# EAGLE library part ISD2100 (library reprapltd)
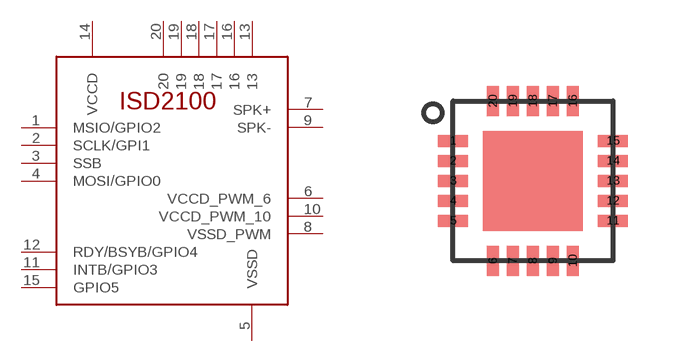
[diagram p3: symbol with the pads of QFN20; footprint QFN20]

Designator prefix IC

## ISD2100  [QFN20]
1  MSIO/GPIO2
2  SCLK/GPI1  in
3  SSB  in
4  MOSI/GPIO0
5  VSSD  pwr
6  VCCD_PWM_6  in
7  SPK+  out
8  VSSD_PWM  in
9  SPK-  out
10  VCCD_PWM_10  in
11  INTB/GPIO3
12  RDY/BSYB/GPIO4
13  13  nc
14  VCCD  pwr
15  GPIO5
16  16  nc
17  17  nc
18  18  nc
19  19  nc
20  20  nc

## Footprint QFN20 (pad centres in mm)
smd 0.75 x 0.3: 1 -2,1; 2 -2,0.5; 3 -2,0; 4 -2,-0.5; 5 -2,-1; 11 2,-1; 12 2,-0.5; 13 2,0; 14 2,0.5; 15 2,1
smd 0.3 x 0.75: 6 -1,-2; 7 -0.5,-2; 8 0,-2; 9 0.5,-2; 10 1,-2; 16 1,2; 17 0.5,2; 18 0,2; 19 -0.5,2; 20 -1,2